# Altium schematic symbol library No.2.SchLib: 8 symbols
Pins are listed as number, name and electrical type; pins without a type are passive.

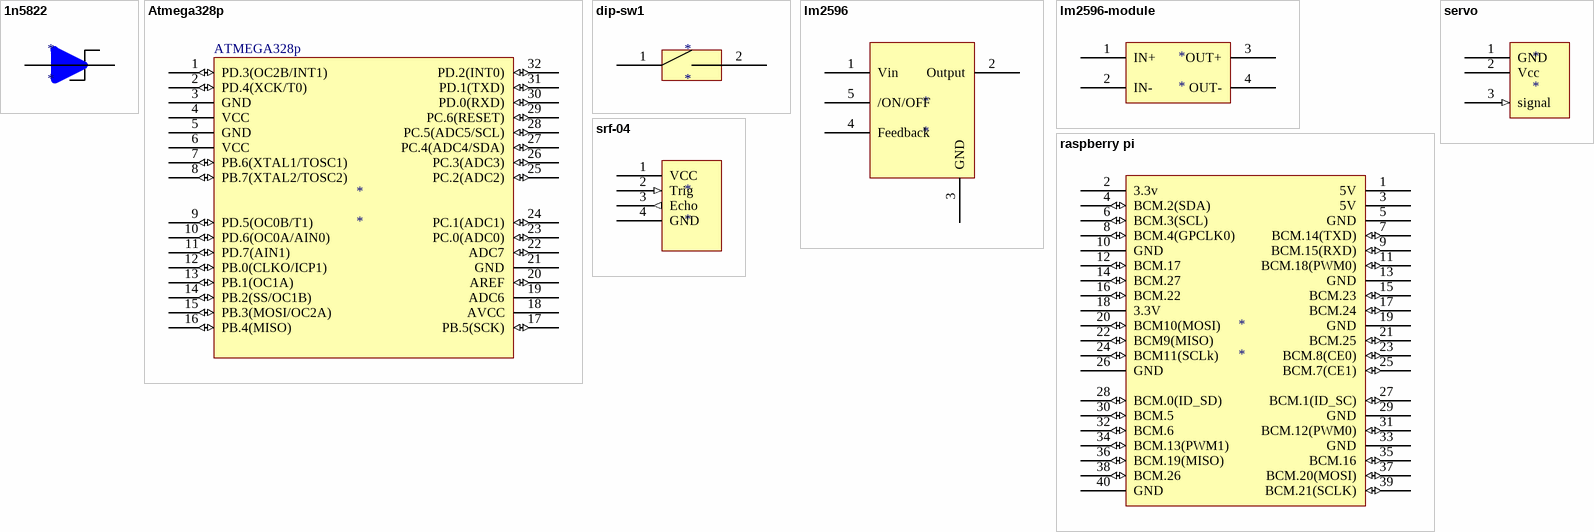
[diagram p0: symbols 1n5822 to srf-04]

## 1n5822
designator *
footprint DO-201AD (Diode, Axial; Body 9.5 x 5.6 mm (LxDia. max), Lead Dia. 1.32 mm (max))
pins: 1 an (power), 2 k (power)

## Atmega328p
designator *
footprint ATMEGA8
pins: 1 PD.3(OC2B/INT1) (io), 2 PD.4(XCK/T0) (io), 3 GND (power), 4 VCC (power), 5 GND (power), 6 VCC (power), 7 PB.6(XTAL1/TOSC1) (io), 8 PB.7(XTAL2/TOSC2) (io), 9 PD.5(OC0B/T1) (io), 10 PD.6(OC0A/AIN0) (io), 11 PD.7(AIN1) (io), 12 PB.0(CLKO/ICP1) (io), 13 PB.1(OC1A) (io), 14 PB.2(SS/OC1B) (io), 15 PB.3(MOSI/OC2A) (io), 16 PB.4(MISO) (io), 17 PB.5(SCK) (io), 18 AVCC (power), 19 ADC6 (power), 20 AREF (io), 21 GND (power), 22 ADC7 (io), 23 PC.0(ADC0) (io), 24 PC.1(ADC1) (io), 25 PC.2(ADC2) (io), 26 PC.3(ADC3) (io), 27 PC.4(ADC4/SDA) (io), 28 PC.5(ADC5/SCL) (io), 29 PC.6(RESET) (io), 30 PD.0(RXD) (io), 31 PD.1(TXD) (io), 32 PD.2(INT0) (io)
text: ATMEGA328p

## dip-sw1
designator *
footprint DIP2
pins: 1 k (power), 2 k (power)

## lm2596
designator *
footprint Model Name (Footprint not found)
pins: 1 Vin (power), 2 Output (power), 3 GND (power), 4 Feedback (power), 5 /ON/OFF (power)

## lm2596-module
designator *
footprint H-1x4
pins: 1 IN+ (power), 2 IN- (power), 3 OUT+ (power), 4 OUT- (power)

## raspberry pi
designator *
footprint HDR2X20
pins: 1 5V (power), 2 3.3v (power), 3 5V (power), 4 BCM.2(SDA) (io), 5 GND (power), 6 BCM.3(SCL) (io), 7 BCM.14(TXD) (io), 8 BCM.4(GPCLK0) (io), 9 BCM.15(RXD) (io), 10 GND (power), 11 BCM.18(PWM0) (io), 12 BCM.17 (io), 13 GND (power), 14 BCM.27 (io), 15 BCM.23 (io), 16 BCM.22 (io), 17 BCM.24 (io), 18 3.3V (power), 19 GND (power), 20 BCM10(MOSI) (io), 21 BCM.25 (io), 22 BCM9(MISO) (io), 23 BCM.8(CE0) (io), 24 BCM11(SCLk) (io), 25 BCM.7(CE1) (io), 26 GND (power), 27 BCM.1(ID_SC) (io), 28 BCM.0(ID_SD) (io), 29 GND (power), 30 BCM.5 (io), 31 BCM.12(PWM0) (io), 32 BCM.6 (io), 33 GND (power), 34 BCM.13(PWM1) (io), 35 BCM.16 (io), 36 BCM.19(MISO) (io), 37 BCM.20(MOSI) (io), 38 BCM.26 (io), 39 BCM.21(SCLK) (io), 40 GND (power)

## servo
designator *
footprint H-1x3
pins: 1 GND (power), 2 Vcc (power), 3 signal (in)

## srf-04
designator *
footprint H-1x4
pins: 1 VCC (power), 2 Trig (in), 3 Echo (out), 4 GND (power)